# Altium integrated library KNoT-Gateway Library.IntLib: 19 symbols
Pins are listed as number, name and electrical type; pins without a type are passive.

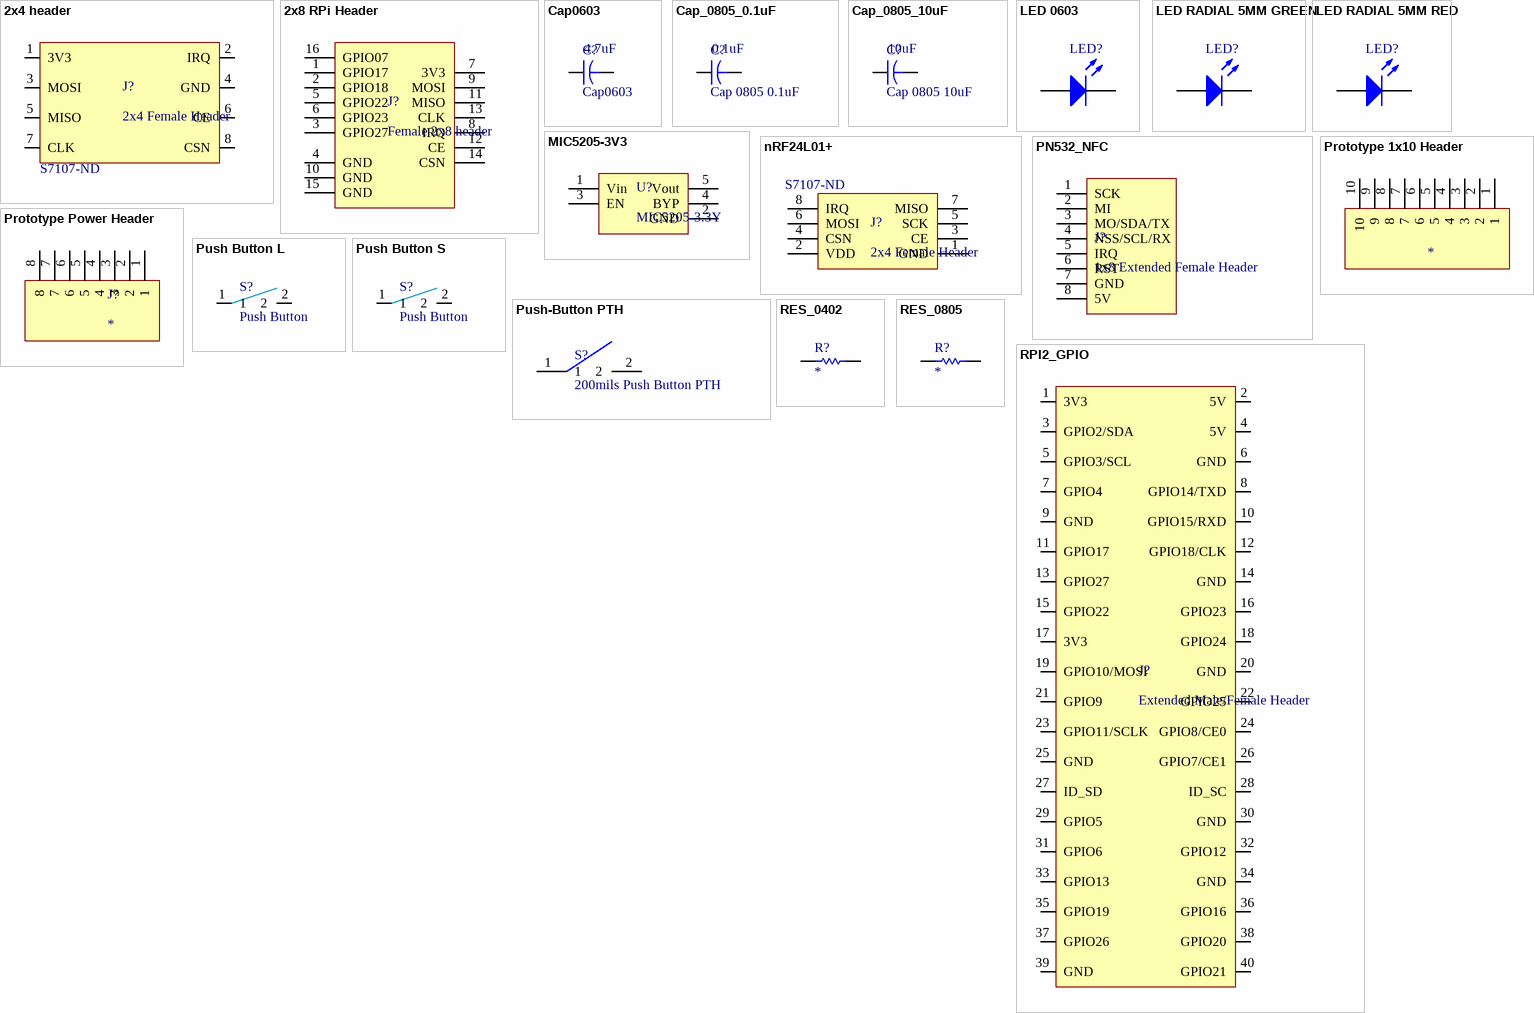
[diagram p0: symbols 2x4 header to RPI2_GPIO]

## 2x4 header
designator J?, comment 2x4 Female Header  Supplier Part Number 1: S7107-ND
Female 2x4 header; Supplier 1: Digi-Key
footprint Female 2x4 Header (Bottom Female 2x4 Header)
pins: 1 3V3, 2 IRQ, 3 MOSI, 4 GND, 5 MISO, 6 CE, 7 CLK, 8 CSN

## 2x8 RPi Header
designator J?, comment Female 2x8 header
Female Bottom 2x4 Header
footprint FEMALE HEADER 2X8 (Female Header Bottom Connector 2x8)
pins: 1 GPIO17, 2 GPIO18, 3 GPIO27, 4 GND, 5 GPIO22, 6 GPIO23, 7 3V3, 8 IRQ, 9 MOSI, 10 GND, 11 MISO, 12 CE, 13 CLK, 14 CSN, 15 GND, 16 GPIO07

## Cap0603
designator C?  value 4.7uF
4.7µF 10V Ceramic Capacitor X5R 0603; Value Part Number 1: 10uF; Value Part Number 2: 0.1uF; Published: 23-Sep-2002; PackageReference: CC0603KRX5R6BB475; Publisher: Altium Limited; PackageDescription: Capacitor; 2 Leads; Supplier 1: Digi-Key; Supplier Part Number 1: 709-1229-1-ND; Supplier 2: Digi-Key; Supplier Part Number 2: 445-8883-1-ND
footprint CAPC1608L
footprint 0805_CAPS (08'' x 05'' Passive Surface Mounted Device)
pins: 1, 2

## Cap_0805_0.1uF
designator C?, comment Cap 0805 0.1uF  value 0.1uF
0.1µF  Ceramic Capacitor 0805; Supplier 1: Digi-Key; Value Part Number 1: 0.1uF; Supplier Part Number 1: 445-8883-1-ND
footprint CAPC1608L
footprint 0805_CAPS (08'' x 05'' Passive Surface Mounted Device)
pins: 1, 2

## Cap_0805_10uF
designator C?, comment Cap 0805 10uF  value 10uF
10uF Ceramic Capacitor 0805; Supplier 1: Digi-Key; Supplier Part Number 1: 709-1229-1-ND; Value Part Number 1: 10uF
footprint CAPC1608L
footprint 0805_CAPS (08'' x 05'' Passive Surface Mounted Device)
pins: 1, 2

## LED 0603
designator LED?, comment LED PTH  (value not drawn)
Supplier 1: Digi-Key; Supplier Part Number 1: C503B-RCN-CW0Z0AA1-ND
footprint LED PTH
pins: 1 A, 2 K

## LED RADIAL 5MM GREEN
designator LED?  (value not drawn)
LED RADIAL; Supplier 1: Digi-Key; Supplier Part Number 1: C503B-RCN-CW0Z0AA1-ND
footprint LED RADIAL 5MM GREEN (LED RADIAL 5MM THROUGH HOLE 100 MILS PITCH)
pins: 1 A, 2 K

## LED RADIAL 5MM RED
designator LED?, comment LED Radial 5mm Red  (value not drawn)
LED RADIAL; Supplier 1: Digi-Key; Supplier Part Number 1: C503B-RCN-CW0Z0AA1-ND
footprint LED RADIAL 5MM RED (LED RADIAL 5MM THROUGH HOLE 100 MILS PITCH)
pins: 1 A, 2 K

## MIC5205-3V3
designator U?, comment MIC5205-3.3Y
MIC5205-3.3Y LDO; Supplier 1: Digi-Key; Supplier Part Number 1: 576-1259-1-ND
footprint SOT23-5
pins: 1 Vin, 2 GND, 3 EN, 4 BYP, 5 Vout

## nRF24L01+
designator J?, comment 2x4 Female Header  Supplier Part Number 1: S7107-ND
nRF24L01 2x4 HEADER; Supplier 1: Digi-Key
footprint nRF24L01+PA+LNA (nRF24L01+PA+LNA MODULE)
pins: 1 GND, 2 VDD, 3 CE, 4 CSN, 5 SCK, 6 MOSI, 7 MISO, 8 IRQ

## PN532_NFC
designator J?, comment 1x8 Extended Female Header
PN532_NFC; Supplier 1: Farnell; Supplier Part Number 1: 1929242
footprint NFC_ITEAD_PN532
pins: 1 SCK, 2 MI, 3 MO/SDA/TX, 4 NSS/SCL/RX, 5 IRQ, 6 RST, 7 GND, 8 5V

## Prototype 1x10 Header
designator J?
footprint Prototype Holes 1x10
pins: 1, 2, 3, 4, 5, 6, 7, 8, 9, 10

## Prototype Power Header
designator J?
footprint Prototype Holes 1X8 (Holes1X8)
pins: 1, 2, 3, 4, 5, 6, 7, 8

## Push Button L
designator S?, comment Push Button
Tactile Push Button Right Angle
footprint Tac Push Button L (Panasonic Small Tac Push Button 8.35mm)
pins: 1, 2

## Push Button S
designator S?, comment Push Button
Tactile Push Button Right Angle
footprint Tac Push Button S (Panasonic Small Tac Push Button 5.85mm)
pins: 1, 2

## Push-Button PTH
designator S?, comment 200mils Push Button PTH
Push Button; Supplier 1: Digi-Key; Supplier Part Number 1: EG2605-ND
footprint Push-Button PTH
pins: 1, 2

## RES_0402
designator R?  (value not drawn)
Precision Thick Film Chip Resistor, 10 Ohm to 1M Ohm Range, 1% and 0.5% Tolerance, 0805 Size, 1/8 W; Value: *
footprint CAPC1005L
pins: 1, 2

## RES_0805
designator R?  (value not drawn)
Precision Thick Film Chip Resistor, 10 Ohm to 1M Ohm Range, 1% and 0.5% Tolerance, 0805 Size, 1/8 W; Value: *
footprint 0805_RES (08'' x 05'' Passive Surface Mounted Device)
pins: 1, 2

## RPI2_GPIO
designator J?, comment Extended Male/Female Header
RPi GPIO HEADER 2X20; Supplier 1: Farnell; Supplier Part Number 1: 1933491
footprint FEMALE HEADER 2X20 (Female Header 2x20, 2.54mm pitch)
pins: 1 3V3, 2 5V, 3 GPIO2/SDA, 4 5V, 5 GPIO3/SCL, 6 GND, 7 GPIO4, 8 GPIO14/TXD, 9 GND, 10 GPIO15/RXD, 11 GPIO17, 12 GPIO18/CLK, 13 GPIO27, 14 GND, 15 GPIO22, 16 GPIO23, 17 3V3, 18 GPIO24, 19 GPIO10/MOSI, 20 GND, 21 GPIO9, 22 GPIO25, 23 GPIO11/SCLK, 24 GPIO8/CE0, 25 GND, 26 GPIO7/CE1, 27 ID_SD, 28 ID_SC, 29 GPIO5, 30 GND, 31 GPIO6, 32 GPIO12, 33 GPIO13, 34 GND, 35 GPIO19, 36 GPIO16, 37 GPIO26, 38 GPIO20, 39 GND, 40 GPIO21